# Altium footprint library PJ082BH.PcbLib: 1 footprints
Each footprint in its own frame and in the unit in brackets; x right, y up, seen from the top. Pads: shape width x height; smd on the part's side, far side on the other; paste and mask are expansions set on the pad; w line width, h text height; cw(c..) or ccw(c..) is an arc to the next point about the centre after c.
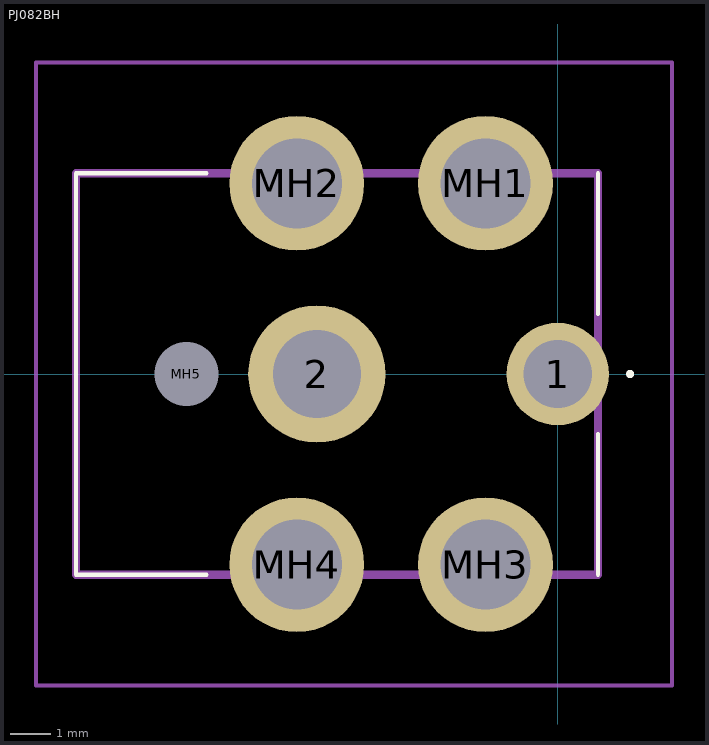
[diagram p0: the footprint, top view; thin cyan lines are the x and y axes]

## PJ082BH [mm]
pads (7):
  round 2.55 hole 1.7: 1(0,0)
  round 3.42 hole 2.193: 2(-6,0)
  round 3.36 hole 2.24: MH1(-1.8,4.75) MH2(-6.5,4.75) MH3(-1.8,-4.75) MH4(-6.5,-4.75)
  round 0.8 hole 1.6 unplated: MH5(-9.25,0)
Top Overlay:
  lines w0.1: -8.75,-5 -12,-5 -12,5 -8.75,5 ; 1,-5 1,-1.5 ; 1,1.5 1,5 ; 1.75,0 1.75,0 ; 1.75,0 ccw(c1.8,0) 1.85,0 ; 1.75,0 cw(c1.8,0) 1.85,0 ; 1.85,0 1.85,0
Mechanical 15:
  lines w0.2: -12,-5 1,-5 1,5 -12,5 -12,-5
Mechanical 20:
  lines w0.1: -13,-7.76 2.85,-7.76 2.85,7.76 -13,7.76 -13,-7.76